# Altium schematic symbol library XTAL_12.288MHz_SMD.SchLib: 1 symbol
Pins are listed as number, name and electrical type; pins without a type are passive.

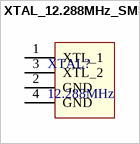
[diagram p0: symbol XTAL_12.288MHz_SMD]

## XTAL_12.288MHz_SMD
designator XTAL?, comment 12.288MHz
CRYSTAL 12.2880MHZ 10PF SMD; Supplier 1: Digi-Key; Supplier Part Number 1: 535-10902-1-ND
footprint XTAL_12.288MHz_SMD (12.288 MHz ±30ppm Crystal 10pF 80 Ohms 4-SMD, No Lead)
pins: 1 XTL_1, 2 GND, 3 XTL_2, 4 GND